# Altium schematic symbol library 1377295.SchLib: 1 symbol
Pins are listed as number, name and electrical type; pins without a type are passive.

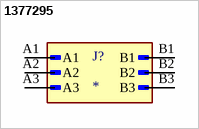
[diagram p0: symbol 1377295]

## 1377295
designator J?
MP: 1377295; Package: None; Price: None; Value: *; Availability: Unavailable
footprint PHOENIX_1377295
pins: A1, A2, A3, B1, B2, B3